# Altium schematic symbol library Capacitors-Electrolytic.SchLib: 1 symbol
Pins are listed as number, name and electrical type; pins without a type are passive.

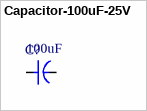
[diagram p0: symbol Capacitor-100uF-25V]

## Capacitor-100uF-25V
designator C?, comment value 100uF  (hidden comment: CAP ALUM 100UF 20% 25V RADIAL)
Volt: 25V; Precision: 20%; Mounted: Yes; Supplier 1: Digi-Key; Supplier Part Number 1: 399-6102-ND; Supplier 2: Digi-Key; Supplier 3: Digi-Key; Supplier 4: Digi-Key
footprint CAPACITOR-Aluminium-5x11mm-2mmPitch (5mm dia x 11mm height Capacitor)
pins: 1, 2